# Altium schematic symbol library PIC16F636.SchLib: 1 symbol
Pins are listed as number, name and electrical type; pins without a type are passive.

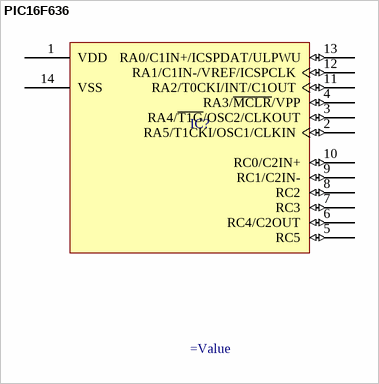
[diagram p0: symbol PIC16F636]

## PIC16F636
designator IC?
=Description
pins: 1 VDD (power), 2 RA5/T1CKI/OSC1/CLKIN (io), 3 RA4/~{T1G}/OSC2/CLKOUT (io), 4 RA3/~{MCLR}/VPP (io), 5 RC5 (io), 6 RC4/C2OUT (io), 7 RC3 (io), 8 RC2 (io), 9 RC1/C2IN- (io), 10 RC0/C2IN+ (io), 11 RA2/T0CKI/INT/C1OUT (io), 12 RA1/C1IN-/VREF/ICSPCLK (io), 13 RA0/C1IN+/ICSPDAT/ULPWU (io), 14 VSS (power)